# Altium schematic symbol library Toroidal 8 output.SchLib: 1 symbol
Pins are listed as number, name and electrical type; pins without a type are passive.

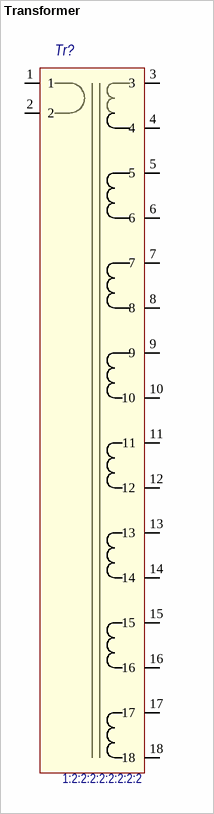
[diagram p0: symbol Transformer]

## Transformer
designator Tr?  value 1:2:2:2:2:2:2:2:2  (hidden comment: Transformer)
!!! Обязательно Впишите описание символа
footprint Tr? (Toroidal transformer)
pins: 1, 2, 3, 4, 5, 6, 7, 8, 9, 10, 11, 12, 13, 14, 15, 16, 17, 18